# EAGLE library part MAX14724ETP+ (library maxorig)
MAX14724 - I2C / SPI mux, 4 to 8 Great for audio routing, with low resistance and quad busses. Each normally open pin can be tied to any combination or none of the shared busses. I2C mode has 1 address pins for a total of 2 possible addresses. Technical specifactions: Signal range: 6Vpp Supply positive -0.3 to +6 V Supply negative -6 to 0.3 V 3ohm on-resistance
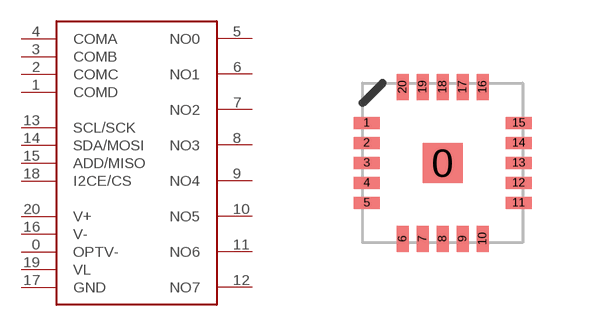
[diagram p16: symbol with the pads of QFN20_4X4; footprint QFN20_4X4]

Designator prefix -

## MAX14724ETP+QFN  [QFN20_4X4]
0  OPTV-
1  COMD
2  COMC
3  COMB
4  COMA
5  NO0
6  NO1
7  NO2
8  NO3
9  NO4
10  NO5
11  NO6
12  NO7
13  SCL/SCK
14  SDA/MOSI
15  ADD/MISO
16  V-
17  GND
18  I2CE/CS
19  VL
20  V+

## Footprint QFN20_4X4 (pad centres in mm)
smd 1 x 1: 0 0,0
smd 0.65 x 0.3: 1 -1.9,1; 2 -1.9,0.5; 3 -1.9,0; 4 -1.9,-0.5; 5 -1.9,-1; 11 1.9,-1; 12 1.9,-0.5; 13 1.9,0; 14 1.9,0.5; 15 1.9,1
smd 0.3 x 0.65: 6 -1,-1.9; 7 -0.5,-1.9; 8 0,-1.9; 9 0.5,-1.9; 10 1,-1.9; 16 1,1.9; 17 0.5,1.9; 18 0,1.9; 19 -0.5,1.9; 20 -1,1.9